# Altium schematic symbol library ToradexMainBoard-V0I1.SCHLIB: 303 symbols (part 2 of 14)
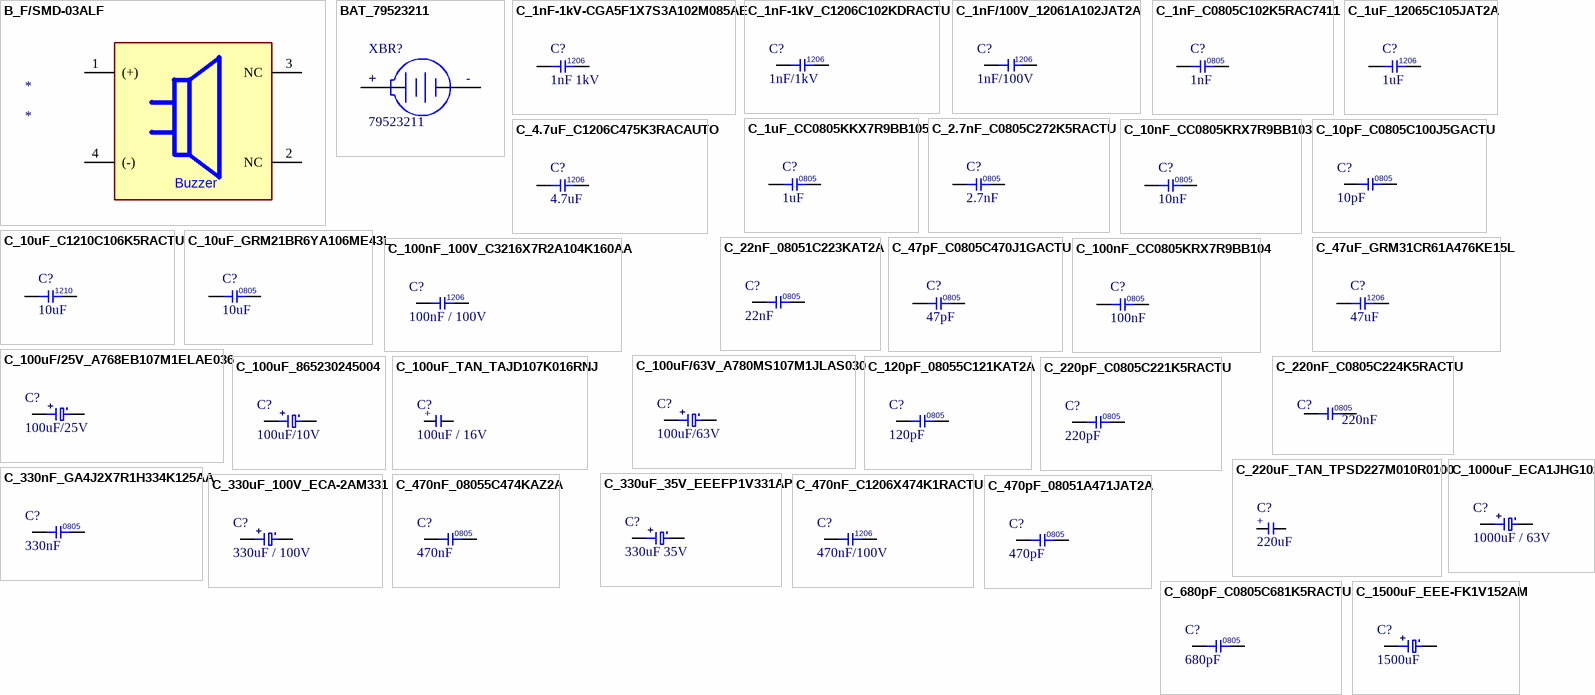
[diagram p16: symbols B_F/SMD-03ALF to C_1500uF_EEE-FK1V152AM]

## C_330nF_GA4J2X7R1H334K125AA
designator C?, comment 330nF
CGA Series 0805 330 nF 50 V ±10 % Tolerance X7R SMT Multilayer Ceramic Capacitor; Manufacturer: TDK; Manufacturer Part Number: CGA4J2X7R1H334K125AA; Voltage Rating: 50V; Tolerance: 10%; Supplier 1: Mouser; RoHS: Yes; Category: Ceramic Capacitors; Stock 1: 57325; Mount: Surface Mount; Case/Package: 0805; Case Code (Metric): 2012; Case Code (Imperial): 0805; Weight: 0.000194oz; Min Operating Temperature: -55°C; Max Operating Temperature: 125°C; Capacitance: 330nF; Packaging: Tape and Reel; Voltage Rating (DC): 50V; Dielectric: X7R; Termination: SMD/SMT; Series: CGA; Package Quantity: 2000; Resistor Type: Ceramic; Length: 2mm; Width: 0.049inch; Height: 1.25mm; Depth: 1.25mm; Thickness: 0.057inch; Ratings: AEC-Q200; RoHS Compliant: Yes; REACH SVHC: No SVHC; Lead Free: Lead Free; ComponentLink1URL: https://datasheet.ciiva.com/24218/cga4j2x7r1h334k125aa-265831-24218542.pdf?src-supplier=Mouser; ComponentLink1Description: https://datasheet.ciiva.com/24218/cga4j2x7r1h334k125aa-265831-24218542.pdf?src-supplier=Mouser; ComponentLink2URL: https://datasheet.ciiva.com/7975/1807242-7975406.pdf?src-supplier=Element14; ComponentLink2Description: https://datasheet.ciiva.com/7975/1807242-7975406.pdf?src-supplier=Element14; Supplier Part Number 1: 810-CGA4J2X7R1H334K
footprint C0805
pins: 1, 2

## C_330uF_35V_EEEFP1V331AP
designator C?, comment 330uF 35V
GLOVE, POLYAMIDE, L/FREE, PU, SIZE 6 - More Details; Manufacturer: Panasonic; Manufacturer Part Number: EEEFP1V331AP; Material: Aluminium; Ripple Current: 1.19A; ESR (Equivalent Series Resistance): 60mR; Tolerance: 20%; Polarity: Polar; Leakage Current: 115.5uA; Life (Hours): 2000Hour; Supplier 1: Farnell; RoHS: Yes; Category: Aluminum Electrolytic Capacitors; Stock 1: 7000; Pricing 1: 500=0,24100, 2500=0,22600 (EUR); Mount: Surface Mount,PCB; Case/Package: Radial; Number of Pins: 2; Dielectric Material: Aluminium; Contact Plating: Tin; Min Operating Temperature: -55°C; Max Operating Temperature: 105°C; Capacitance: 330uF; Termination: SMD/SMT; Voltage: 35V; Voltage Rating: 35V; Ripple Current (AC): 1.19A; Packaging: Tape and Reel; Voltage Rating (DC): 35V; Package Quantity: 500; Diameter: 10mm; Length: 10.5mm; Width: 10.3mm; Height: 10.2mm; Height - Seated (Max): 0.402inch; Lead Pitch: 4.6mm; Radiation Hardening: No; REACH SVHC: No SVHC; Lead Free: Lead Free; ComponentLink1URL: https://datasheet.ciiva.com/25613/0900766b80df09a1-25613928.pdf?src-supplier=RSComponents; ComponentLink1Description: https://datasheet.ciiva.com/25613/0900766b80df09a1-25613928.pdf?src-supplier=RSComponents; ComponentLink2URL: https://datasheet.ciiva.com/11777/0900766b80df09a1-11777338.pdf?src-supplier=RSComponents; ComponentLink2Description: https://datasheet.ciiva.com/11777/0900766b80df09a1-11777338.pdf?src-supplier=RSComponents; ComponentLink3URL: https://datasheet.ciiva.com/29313/444849-da-01-en-smd-elko-eeefp1v331ap-330uf-35v-105-29313972.pdf?src-supplier=Conrad; ComponentLink3Description: https://datasheet.ciiva.com/29313/444849-da-01-en-smd-elko-eeefp1v331ap-330uf-35v-105-29313972.pdf?src-supplier=Conrad; ComponentLink4URL: https://datasheet.ciiva.com/14600/70068195-14600453.pdf?src-supplier=Allied+Electronics; ComponentLink4Description: https://datasheet.ciiva.com/14600/70068195-14600453.pdf?src-supplier=Allied+Electronics; ComponentLink5URL: https://datasheet.ciiva.com/30151/aba0000ce114-30151389.pdf?src-supplier=Onlinecomponents.com; ComponentLink5Description: https://datasheet.ciiva.com/30151/aba0000ce114-30151389.pdf?src-supplier=Onlinecomponents.com; ComponentLink6URL: https://datasheet.ciiva.com/2985/aba0000ce114-2985550.pdf?src-supplier=Avnet; ComponentLink6Description: https://datasheet.ciiva.com/2985/aba0000ce114-2985550.pdf?src-supplier=Avnet; ComponentLink7URL: https://datasheet.ciiva.com/24028/aba0000ce114-40714-24028182.pdf?src-supplier=Mouser; ComponentLink7Description: https://datasheet.ciiva.com/24028/aba0000ce114-40714-24028182.pdf?src-supplier=Mouser; ComponentLink8URL: https://datasheet.ciiva.com/46386/370232-46386774.pdf?src-supplier=Element14; ComponentLink8Description: https://datasheet.ciiva.com/46386/370232-46386774.pdf?src-supplier=Element14; ComponentLink9URL: https://datasheet.ciiva.com/46385/370232-46385482.pdf?src-supplier=Element14; ComponentLink9Description: https://datasheet.ciiva.com/46385/370232-46385482.pdf?src-supplier=Element14; ComponentLink10URL: https://datasheet.ciiva.com/48523/fp-eng-tds-48523850.pdf?src-supplier=Distrelec; ComponentLink10Description: https://datasheet.ciiva.com/48523/fp-eng-tds-48523850.pdf?src-supplier=Distrelec; ComponentLink11URL: https://datasheet.ciiva.com/10327/aba0000ce114-10327227.pdf?src-supplier=Avnet; ComponentLink11Description: https://datasheet.ciiva.com/10327/aba0000ce114-10327227.pdf?src-supplier=Avnet; ComponentLink12URL: https://datasheet.ciiva.com/14603/70068195-14603563.pdf?src-supplier=Allied+Electronics; ComponentLink12Description: https://datasheet.ciiva.com/14603/70068195-14603563.pdf?src-supplier=Allied+Electronics; ComponentLink13URL: https://datasheet.ciiva.com/17533/aba0000ce114-17533116.pdf?src-supplier=Avnet+Europe; ComponentLink13Description: https://datasheet.ciiva.com/17533/aba0000ce114-17533116.pdf?src-supplier=Avnet+Europe; ComponentLink14URL: https://datasheet.ciiva.com/28692/370232-28692654.pdf?src-supplier=Element14; ComponentLink14Description: https://datasheet.ciiva.com/28692/370232-28692654.pdf?src-supplier=Element14; Supplier Part Number 1: 2408633
footprint C_EEEFP1V331AP
pins: 1, 2
text: +; -

## C_330uF_100V_ECA-2AM331
designator C?, comment 330uF / 100V
Cap Aluminum Lytic 330uF 100V 20% (12.5 X 25mm) Radial 5mm 700mA 2000h 85C Bulk; Manufacturer: Panasonic; Manufacturer Part Number: ECA-2AM331; Dielectric Material: Aluminium; Lead/Base Style: Straight; Polarity: Polar; Life (Hours): 2000Hour; Leakage Current: 330uA; Dissipation Factor: 0.1%; Lead Diameter: 0.6mm; Lead Length: 17mm; Supplier 1: Farnell; RoHS: Yes; Category: Aluminum Electrolytic Capacitors; Stock 1: 975; Pricing 1: 1=1,19000, 5=1,02000, 10=0,84400, 20=0,69300, 40=0,54200, 100=0,46600, 500=0,38900 (EUR); Mount: Through Hole,PCB; Case/Package: Radial; Number of Pins: 2; Min Operating Temperature: -40°C; Max Operating Temperature: 85°C; Termination: Radial; Capacitance: 330uF; Tolerance: 20%; Ripple Current: 700mA; Voltage Rating: 100V; Packaging: Bulk; Package Quantity: 200; Voltage Rating (DC): 100V; Voltage: 100V; Diameter: 12.5mm; Length: 25mm; Height: 25mm; Lead Pitch: 5mm; Height - Seated (Max): 1.063inch; Radiation Hardening: No; REACH SVHC: Yes; Lead Free: Lead Free; ComponentLink1URL: https://datasheet.ciiva.com/30175/49aba0000ce12-30175590.pdf?src-supplier=Onlinecomponents.com; ComponentLink1Description: https://datasheet.ciiva.com/30175/49aba0000ce12-30175590.pdf?src-supplier=Onlinecomponents.com; ComponentLink2URL: https://datasheet.ciiva.com/2984/aba0000ce12-2984407.pdf?src-supplier=Avnet; ComponentLink2Description: https://datasheet.ciiva.com/2984/aba0000ce12-2984407.pdf?src-supplier=Avnet; ComponentLink3URL: https://datasheet.ciiva.com/24228/aba0000ce12-465472-24228297.pdf?src-supplier=Mouser; ComponentLink3Description: https://datasheet.ciiva.com/24228/aba0000ce12-465472-24228297.pdf?src-supplier=Mouser; ComponentLink4URL: https://datasheet.ciiva.com/15198/getdatasheetpartid-238871-15198023.pdf?src-supplier=Verical; ComponentLink4Description: https://datasheet.ciiva.com/15198/getdatasheetpartid-238871-15198023.pdf?src-supplier=Verical; ComponentLink5URL: https://datasheet.ciiva.com/14608/70067785-14608362.pdf?src-supplier=Allied+Electronics; ComponentLink5Description: https://datasheet.ciiva.com/14608/70067785-14608362.pdf?src-supplier=Allied+Electronics; ComponentLink6URL: https://datasheet.ciiva.com/16395/aba0000ce12-16395339.pdf?src-supplier=Future+Electronics; ComponentLink6Description: https://datasheet.ciiva.com/16395/aba0000ce12-16395339.pdf?src-supplier=Future+Electronics; Supplier Part Number 1: 1907145
footprint C_ECA-2AM331
pins: 1, 2
text: +; -

## C_470nF_08055C474KAZ2A
designator C?, comment 470nF
CAP CER 0.47UF 50V X7R 0805; Manufacturer: Kyocera AVX; Manufacturer Part Number: 08055C474KAZ2A; Dielectric Material: Ceramic; Tolerance: 10%; Supplier 1: Farnell; RoHS: Yes; Category: Ceramic Capacitors; Stock 1: 87000; Pricing 1: 3000=0,05700, 15000=0,05590 (EUR); Mount: Surface Mount; Case/Package: 0805; Number of Pins: 2; Case Code (Metric): 2012; Case Code (Imperial): 0805; Contact Plating: Tin,Matte; Min Operating Temperature: -55°C; Max Operating Temperature: 125°C; Capacitance: 470nF; Packaging: Tape and Reel; Dielectric: X7R; Voltage Rating: 50V; Voltage Rating (DC): 50V; Termination: SMD/SMT; Package Quantity: 2000; Voltage: 50V; Features: Soft Termination; Length: 2.01mm; Width: 0.049inch; Height: 1.4mm; Depth: 1.25mm; Thickness: 0.037inch; Radiation Hardening: No; REACH SVHC: No SVHC; Lead Free: Lead Free; ComponentLink1URL: https://datasheet.ciiva.com/11786/0900766b80dc2409-11786677.pdf?src-supplier=RSComponents; ComponentLink1Description: https://datasheet.ciiva.com/11786/0900766b80dc2409-11786677.pdf?src-supplier=RSComponents; ComponentLink2URL: https://datasheet.ciiva.com/5410/flexiterm-5410875.pdf?src-supplier=Mouser; ComponentLink2Description: https://datasheet.ciiva.com/5410/flexiterm-5410875.pdf?src-supplier=Mouser; ComponentLink3URL: https://datasheet.ciiva.com/7812/319609-7812127.pdf?src-supplier=Element14; ComponentLink3Description: https://datasheet.ciiva.com/7812/319609-7812127.pdf?src-supplier=Element14; Supplier Part Number 1: 3297802
footprint C0805
pins: 1, 2

## C_470nF_C1206X474K1RACTU
designator C?, comment 470nF/100V
Cap Ceramic 0.47uF 100V X7R 10% Pad SMD 1206 Flexible Termination 125C Automotive Medical T/R; Manufacturer: KEMET; Manufacturer Part Number: C1206X474K1RACTU; Capacitance: 470nF; Supplier 1: Farnell; RoHS: Yes; Category: Ceramic Capacitors; Stock 1: 3723; Pricing 1: 5=1,20000, 50=0,77300, 250=0,67900, 500=0,58400 (EUR); Mount: Surface Mount; Case/Package: 1206; Dielectric Material: Ceramic; Case Code (Imperial): 1206; Case Code (Metric): 3216; Min Operating Temperature: -55°C; Max Operating Temperature: 125°C; Tolerance: 10%; Packaging: Tape and Reel; Dielectric: X7R; Voltage Rating (DC): 100V; Features: Soft Termination; Package Quantity: 2000; Series: FT-CAP; Voltage Rating: 100V; Termination: SMD/SMT; Construction: Flat; Length: 3.3mm; Width: 0.063inch; Height: 0.9mm; Depth: 1.6mm; Thickness: 0.069inch; Radiation Hardening: No; REACH SVHC: Unknown; RoHS Compliant: Yes; ComponentLink1URL: https://datasheet.ciiva.com/7730/1598273-7730041.pdf?src-supplier=Element14; ComponentLink1Description: https://datasheet.ciiva.com/7730/1598273-7730041.pdf?src-supplier=Element14; ComponentLink2URL: https://datasheet.ciiva.com/7730/kem-c1002-x7r-smd-7730185.pdf?src-supplier=Element14; ComponentLink2Description: https://datasheet.ciiva.com/7730/kem-c1002-x7r-smd-7730185.pdf?src-supplier=Element14; Supplier Part Number 1: 2112906
footprint C1206
pins: 1, 2

## C_470pF_08051A471JAT2A
designator C?, comment 470pF
AVX - 08051A471JAT2A - SMD Multilayer Ceramic Capacitor, 470 pF, 100 V, 0805 [2012 Metric], ± 5%, C0G / NP0, AVX 0805 MLCC; Manufacturer: Kyocera AVX; Voltage Rating: 100V; Dissipation Factor: 2.5%; Temperature Coefficient: 30ppm/°C; Insulation Resistance: 100GR; Supplier 1: Farnell; Manufacturer Part Number: 08051A471JAT2A; RoHS: Yes; Category: Ceramic Capacitors; Stock 1: 24000; Pricing 1: 4000=0,03540, 20000=0,02240 (EUR); Mount: Surface Mount,PCB; Case/Package: 0805; Number of Pins: 2; Case Code (Imperial): 0805; Case Code (Metric): 2012; Contact Plating: Tin,Matte; Min Operating Temperature: -55°C; Max Operating Temperature: 125°C; Capacitance: 470pF; Tolerance: 5%; Voltage Rating (DC): 100V; Packaging: Tape and Reel; Dielectric: C0G; Package Quantity: 1; Termination: SMD/SMT; Voltage: 100V; Length: 2.01mm; Width: 1.25mm; Height: 0.94mm; Thickness: 0.037inch; Depth: 1.25mm; Radiation Hardening: No; REACH SVHC: No SVHC; Lead Free: Lead Free; ComponentLink1URL: https://datasheet.ciiva.com/11787/0900766b802d4697-11787179.pdf?src-supplier=RSComponents; ComponentLink1Description: https://datasheet.ciiva.com/11787/0900766b802d4697-11787179.pdf?src-supplier=RSComponents; ComponentLink2URL: https://datasheet.ciiva.com/19476/2010384-19476174.pdf?src-supplier=Jameco; ComponentLink2Description: https://datasheet.ciiva.com/19476/2010384-19476174.pdf?src-supplier=Jameco; ComponentLink3URL: https://datasheet.ciiva.com/11536/ccog-11536997.pdf?src-supplier=Avnet; ComponentLink3Description: https://datasheet.ciiva.com/11536/ccog-11536997.pdf?src-supplier=Avnet; ComponentLink4URL: https://datasheet.ciiva.com/14590/70001042-14590309.pdf?src-supplier=Allied+Electronics; ComponentLink4Description: https://datasheet.ciiva.com/14590/70001042-14590309.pdf?src-supplier=Allied+Electronics; ComponentLink5URL: https://datasheet.ciiva.com/14594/70001042-14594869.pdf?src-supplier=Allied+Electronics; ComponentLink5Description: https://datasheet.ciiva.com/14594/70001042-14594869.pdf?src-supplier=Allied+Electronics; ComponentLink6URL: https://datasheet.ciiva.com/2987/ccog-2987926.pdf?src-supplier=Avnet; ComponentLink6Description: https://datasheet.ciiva.com/2987/ccog-2987926.pdf?src-supplier=Avnet; ComponentLink7URL: https://datasheet.ciiva.com/5424/ccog-243403-5424886.pdf?src-supplier=Mouser; ComponentLink7Description: https://datasheet.ciiva.com/5424/ccog-243403-5424886.pdf?src-supplier=Mouser; ComponentLink8URL: https://datasheet.ciiva.com/28546/759117-28546679.pdf?src-supplier=Element14; ComponentLink8Description: https://datasheet.ciiva.com/28546/759117-28546679.pdf?src-supplier=Element14; ComponentLink9URL: https://datasheet.ciiva.com/151/ccog-151179.pdf?src-supplier=Digi-Key; ComponentLink9Description: https://datasheet.ciiva.com/151/ccog-151179.pdf?src-supplier=Digi-Key; ComponentLink10URL: https://datasheet.ciiva.com/151/ccog-151180.pdf?src-supplier=Digi-Key; ComponentLink10Description: https://datasheet.ciiva.com/151/ccog-151180.pdf?src-supplier=Digi-Key; ComponentLink11URL: https://datasheet.ciiva.com/6150/26712-6150332.pdf?src-supplier=Farnell; ComponentLink11Description: https://datasheet.ciiva.com/6150/26712-6150332.pdf?src-supplier=Farnell; ComponentLink12URL: https://datasheet.ciiva.com/151/ccog-151181.pdf?src-supplier=Digi-Key; ComponentLink12Description: https://datasheet.ciiva.com/151/ccog-151181.pdf?src-supplier=Digi-Key; ComponentLink13URL: https://datasheet.ciiva.com/7811/759117-7811903.pdf?src-supplier=Element14; ComponentLink13Description: https://datasheet.ciiva.com/7811/759117-7811903.pdf?src-supplier=Element14; Supplier Part Number 1: 2280932
footprint C0805
pins: 1, 2

## C_680pF_C0805C681K5RACTU
designator C?, comment 680pF
Cap Ceramic 680pF 50V X7R 10% SMD 0805 125C T/R; Manufacturer: KEMET; Manufacturer Part Number: C0805C681K5RACTU; Dissipation Factor: 2.5%; Supplier 1: Farnell; RoHS: Yes; Category: Ceramic Capacitors; Stock 1: 3684; Pricing 1: 10=0,16600, 100=0,10900, 500=0,07040, 1000=0,06490, 2000=0,05190 (EUR); Mount: Surface Mount,PCB; Case/Package: 0805; Case Code (Imperial): 0805; Case Code (Metric): 2012; Dielectric Material: Ceramic; Min Operating Temperature: -55°C; Max Operating Temperature: 125°C; Capacitance: 680pF; Tolerance: 10%; Packaging: Tape and Reel; Package Quantity: 1; Dielectric: X7R; Voltage Rating (DC): 50V; Termination: SMD/SMT; Voltage Rating: 50V; Voltage: 50V; Length: 2mm; Width: 1.2mm; Height: 0.78mm; Depth: 1.25mm; Thickness: 0.035inch; Lead Pitch: 0.75mm; Radiation Hardening: No; REACH SVHC: No SVHC; ComponentLink1URL: https://datasheet.ciiva.com/5424/kem-c1002-x7r-smd-357932-5424613.pdf?src-supplier=Mouser; ComponentLink1Description: https://datasheet.ciiva.com/5424/kem-c1002-x7r-smd-357932-5424613.pdf?src-supplier=Mouser; ComponentLink2URL: https://datasheet.ciiva.com/14598/70095383-14598986.pdf?src-supplier=Allied+Electronics; ComponentLink2Description: https://datasheet.ciiva.com/14598/70095383-14598986.pdf?src-supplier=Allied+Electronics; Supplier Part Number 1: 2581098
footprint C0805
pins: 1, 2

## C_1000uF_ECA1JHG102
designator C?, comment 1000uF / 63V
Capacitor;  Aluminum Electrolytic;  Cap 1000uF;  Vol-Rtg 63V;  Radial;  nHg; Manufacturer: Panasonic; Manufacturer Part Number: ECA1JHG102; Dielectric Material: Aluminium; Capacitance: 1mF; Tolerance: 20%; Ripple Current: 930mA; Life (Hours): 2000Hour; Lead/Base Style: Straight; Leakage Current: 3uA; Dissipation Factor: 0.1%; Lead Diameter: 0.8mm; Supplier 1: Farnell; RoHS: Yes; Category: Aluminum Electrolytic Capacitors; Stock 1: 3419; Pricing 1: 1=1,80000, 3=1,62000, 5=1,45000, 10=1,27000, 20=1,02000, 50=0,77000, 250=0,75500 (EUR); Mount: Through Hole,PCB; Case/Package: Radial; Contact Plating: Tin; Min Operating Temperature: -55°C; Max Operating Temperature: 105°C; Termination: Radial; Packaging: Bulk; Voltage Rating (DC): 63V; Voltage Rating: 63V; Package Quantity: 100; Voltage: 63V; Diameter: 16mm; Length: 25mm; Height: 25mm; Lead Pitch: 7.5mm; Height - Seated (Max): 1.063inch; Radiation Hardening: No; Lead Free: Lead Free; REACH SVHC: No SVHC; ComponentLink1URL: https://datasheet.ciiva.com/11778/0900766b800301b8-11778754.pdf?src-supplier=RSComponents; ComponentLink1Description: https://datasheet.ciiva.com/11778/0900766b800301b8-11778754.pdf?src-supplier=RSComponents; ComponentLink2URL: https://datasheet.ciiva.com/26841/getdatasheetpartid-407721-26841077.pdf?src-supplier=Verical; ComponentLink2Description: https://datasheet.ciiva.com/26841/getdatasheetpartid-407721-26841077.pdf?src-supplier=Verical; ComponentLink3URL: https://datasheet.ciiva.com/27055/1980899-27055562.pdf?src-supplier=Jameco; ComponentLink3Description: https://datasheet.ciiva.com/27055/1980899-27055562.pdf?src-supplier=Jameco; ComponentLink4URL: https://datasheet.ciiva.com/30175/8aba0000ce26-30175355.pdf?src-supplier=Onlinecomponents.com; ComponentLink4Description: https://datasheet.ciiva.com/30175/8aba0000ce26-30175355.pdf?src-supplier=Onlinecomponents.com; ComponentLink5URL: https://datasheet.ciiva.com/43485/1790596-43485277.pdf?src-supplier=Farnell; ComponentLink5Description: https://datasheet.ciiva.com/43485/1790596-43485277.pdf?src-supplier=Farnell; ComponentLink6URL: https://datasheet.ciiva.com/46396/1903322-46396509.pdf?src-supplier=Element14; ComponentLink6Description: https://datasheet.ciiva.com/46396/1903322-46396509.pdf?src-supplier=Element14; ComponentLink7URL: https://datasheet.ciiva.com/48521/radial-nhg-eng-tds-48521982.pdf?src-supplier=Distrelec; ComponentLink7Description: https://datasheet.ciiva.com/48521/radial-nhg-eng-tds-48521982.pdf?src-supplier=Distrelec; ComponentLink8URL: https://datasheet.ciiva.com/14590/70067776-14590015.pdf?src-supplier=Allied+Electronics; ComponentLink8Description: https://datasheet.ciiva.com/14590/70067776-14590015.pdf?src-supplier=Allied+Electronics; ComponentLink9URL: https://datasheet.ciiva.com/17356/aba0000ce26-17356309.pdf?src-supplier=Avnet+Europe; ComponentLink9Description: https://datasheet.ciiva.com/17356/aba0000ce26-17356309.pdf?src-supplier=Avnet+Europe; ComponentLink10URL: https://datasheet.ciiva.com/16393/aba0000ce26-16393351.pdf?src-supplier=Future+Electronics; ComponentLink10Description: https://datasheet.ciiva.com/16393/aba0000ce26-16393351.pdf?src-supplier=Future+Electronics; Supplier Part Number 1: 9693076
footprint C_ECA1JHG102
pins: 1, 2
text: +; -

## C_1500uF_EEE-FK1V152AM
designator C?, comment 1500uF
CAP, ALU ELEC, 1500UF, 35V, SMD; Manufacturer: Panasonic; Manufacturer Part Number: EEE-FK1V152AM; Capacitance: 1.5mF; Tolerance: 20%; Ripple Current: 1.8A; Impedance: 35mR; Polarity: Polar; Life (Hours): 5000Hour; Dissipation Factor: 0.12%; Supplier 1: Farnell; RoHS: Yes; Category: Aluminum Electrolytic Capacitors; Stock 1: 869; Pricing 1: 1=2,26000, 5=1,80000, 10=1,33000, 25=1,24000, 50=1,15000, 125=1,04000, 625=0,92600 (EUR); Mount: Surface Mount,PCB; Case/Package: Radial; Contact Plating: Tin; Min Operating Temperature: -55°C; Max Operating Temperature: 105°C; Voltage Rating: 35V; Packaging: Tape and Reel; Package Quantity: 125; Voltage Rating (DC): 35V; ESR (Equivalent Series Resistance): 35mR; Ripple Current (AC): 1.8A; Termination: SMD/SMT; Voltage: 35V; Series: FK; Construction: Cylindrical; Diameter: 16mm; Length: 16.5mm; Height: 16.5mm; Height - Seated (Max): 0.669inch; Radiation Hardening: No; REACH SVHC: No SVHC; Lead Free: Lead Free; RoHS Compliant: Yes; ComponentLink1URL: https://datasheet.ciiva.com/11783/0900766b80e4e801-11783472.pdf?src-supplier=RSComponents; ComponentLink1Description: https://datasheet.ciiva.com/11783/0900766b80e4e801-11783472.pdf?src-supplier=RSComponents; ComponentLink2URL: https://datasheet.ciiva.com/43470/1726499-43470727.pdf?src-supplier=Farnell; ComponentLink2Description: https://datasheet.ciiva.com/43470/1726499-43470727.pdf?src-supplier=Farnell; ComponentLink3URL: https://datasheet.ciiva.com/46372/1726499-46372503.pdf?src-supplier=Element14; ComponentLink3Description: https://datasheet.ciiva.com/46372/1726499-46372503.pdf?src-supplier=Element14; ComponentLink4URL: https://datasheet.ciiva.com/11678/aba0000ce88-11678076.pdf?src-supplier=Avnet; ComponentLink4Description: https://datasheet.ciiva.com/11678/aba0000ce88-11678076.pdf?src-supplier=Avnet; ComponentLink5URL: https://datasheet.ciiva.com/17532/aba0000ce88-17532204.pdf?src-supplier=Avnet+Europe; ComponentLink5Description: https://datasheet.ciiva.com/17532/aba0000ce88-17532204.pdf?src-supplier=Avnet+Europe; ComponentLink6URL: https://datasheet.ciiva.com/46379/1726499-46379151.pdf?src-supplier=Element14; ComponentLink6Description: https://datasheet.ciiva.com/46379/1726499-46379151.pdf?src-supplier=Element14; ComponentLink7URL: https://datasheet.ciiva.com/31417/1726499-31417902.pdf?src-supplier=Farnell; ComponentLink7Description: https://datasheet.ciiva.com/31417/1726499-31417902.pdf?src-supplier=Farnell; ComponentLink8URL: https://datasheet.ciiva.com/48524/fk-large-eng-tds-48524430.pdf?src-supplier=Distrelec; ComponentLink8Description: https://datasheet.ciiva.com/48524/fk-large-eng-tds-48524430.pdf?src-supplier=Distrelec; ComponentLink9URL: https://datasheet.ciiva.com/14599/70256466-14599879.pdf?src-supplier=Allied+Electronics; ComponentLink9Description: https://datasheet.ciiva.com/14599/70256466-14599879.pdf?src-supplier=Allied+Electronics; Supplier Part Number 1: 2326215
footprint C_EEE-FK1V152AM
pins: 1, 2
text: +; -

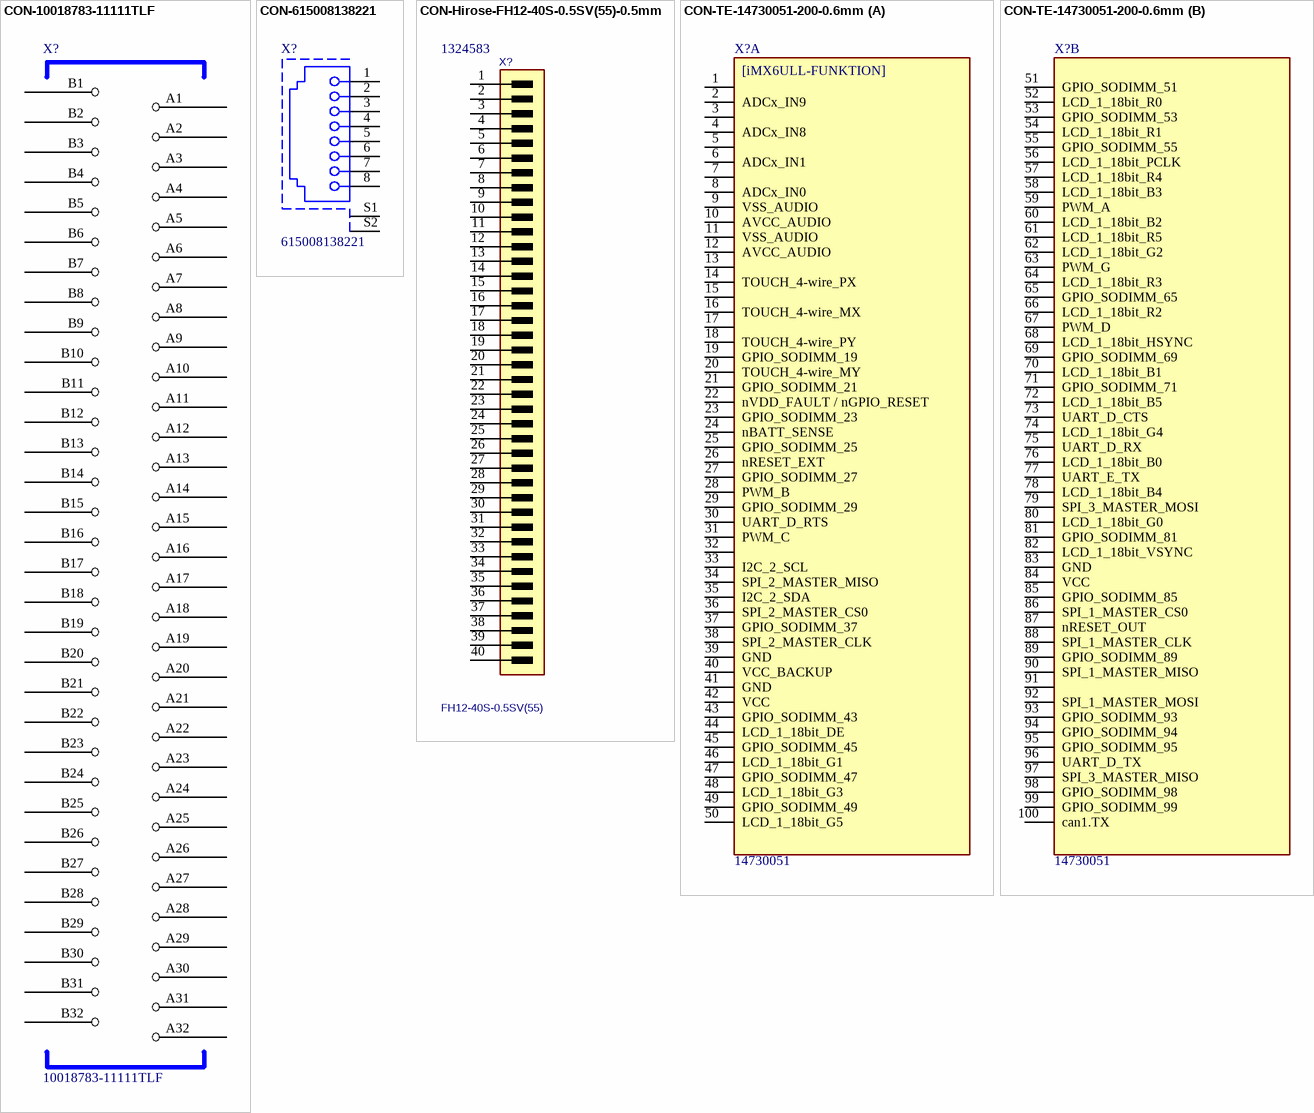
[diagram p1: symbols CON-10018783-11111TLF to CON-TE-14730051-200-0.6mm]

## CON-10018783-11111TLF
designator X?, comment 10018783-11111TLF
AMPHENOL ICC (FCI) - 10018783-11111TLF - CONNECTOR, PCI, 2X32WAY; Manufacturer: Amphenol FCI; Number of Contacts: 64; Gender: Female; Current Rating: 1.1A; Voltage Rating (AC): 300V; Contact Resistance: 30mR; Mating Cycles: 50; Insulation Resistance: 1GR; Connector Type: Cantilever; Pitch: 2mm; Board Thickness: 2.36mm; Pin Length: 3.1mm; Card Thickness: 0.062inch; PCBChecked: initials after Checked; Supplier 1: Digi-Key; Manufacturer Part Number: 10018783-11111TLF; RoHS: Yes; Category: Card Edge Connectors; Mount: Through Hole,PCB; Contact Plating: Gold,Tin,Matte; Contact Material: Copper Alloy; Color: Black; Material: Nylon,Glass; Housing Color: Black; Insulation Material: Nylon; Housing Material: Nylon; Min Operating Temperature: -55°C; Max Operating Temperature: 85°C; Number of Rows: 2; Termination: Solder; Package Quantity: 60; Packaging: Tray; Number of Positions: 64; Max Voltage Rating (AC): 300V; Orientation: Straight; Length: 39mm; Height: 11.25mm; Lead Pitch: 1mm; Width: 11.25mm; Depth: 8.8mm; Row Spacing: 2mm; Tail Length: 2.36mm; REACH SVHC: No SVHC; Lead Free: Lead Free; Flammability Rating: UL94 V-0; ComponentLink1URL: https://datasheet.ciiva.com/11732/0900766b807b50f6-11732962.pdf?src-supplier=RSComponents; ComponentLink1Description: https://datasheet.ciiva.com/11732/0900766b807b50f6-11732962.pdf?src-supplier=RSComponents; ComponentLink2URL: https://datasheet.ciiva.com/14636/0900766b807b50f6-14636453.pdf?src-supplier=Allied+Electronics; ComponentLink2Description: https://datasheet.ciiva.com/14636/0900766b807b50f6-14636453.pdf?src-supplier=Allied+Electronics; ComponentLink3URL: https://datasheet.ciiva.com/417/10018783-417603.pdf?src-supplier=Digi-Key; ComponentLink3Description: https://datasheet.ciiva.com/417/10018783-417603.pdf?src-supplier=Digi-Key; ComponentLink4URL: https://datasheet.ciiva.com/5671/gs-12-233-532843-5671048.pdf?src-supplier=Mouser; ComponentLink4Description: https://datasheet.ciiva.com/5671/gs-12-233-532843-5671048.pdf?src-supplier=Mouser; ComponentLink5URL: https://datasheet.ciiva.com/16666/10018783-16666568.pdf?src-supplier=Avnet+Europe; ComponentLink5Description: https://datasheet.ciiva.com/16666/10018783-16666568.pdf?src-supplier=Avnet+Europe; ComponentLink6URL: https://datasheet.ciiva.com/3099/10018783-3099434.pdf?src-supplier=Avnet; ComponentLink6Description: https://datasheet.ciiva.com/3099/10018783-3099434.pdf?src-supplier=Avnet; Supplier Part Number 1: 609-1996-ND; Stock 1: 3867; IPC7352C: initials after Checked; SCHChecked: initials after Checked
footprint 10018783-11111TLF _kor (CONN PCI EXP FEMALE 64POS 0.039)
pins: A1, A2, A3, A4, A5, A6, A7, A8, A9, A10, A11, A12, A13, A14, A15, A16, A17, A18, A19, A20, A21, A22, A23, A24, A25, A26, A27, A28, A29, A30, A31, A32, B1, B2, B3, B4, B5, B6, B7, B8, B9, B10, B11, B12, B13, B14, B15, B16, B17, B18, B19, B20, B21, B22, B23, B24, B25, B26, B27, B28, B29, B30, B31, B32

## CON-615008138221
designator X?, comment 615008138221
WURTH ELEKTRONIK - 615008138221 - JACK, RJ45, VERT, 8P8C, SHIELDED; Manufacturer: Wurth Electronics; Number of Ports: 1; Direction: User Selectable; Connector Type: Jack,RJ45,Socket; Number of Contacts: 8; Gender: Female; Current Rating: 1.5A; Mating Cycles: 500; Voltage Rating: 125V; Supplier 1: Digi-Key; Manufacturer Part Number: 615008138221; RoHS: Yes; Category: Connectors; Mount: Through Hole; Contact Material: Copper Alloy,Copper; Housing Material: PBT; Contact Plating: Gold; Color: Black; Min Operating Temperature: -40°C; Max Operating Temperature: 85°C; Termination: Through Hole; Package Quantity: 80; Number of Rows: 1; Shielding: Shielded; Packaging: Tray; Number of Positions: 8; Orientation: Vertical; Length: 16.65mm; Height: 16.65mm; Depth: 16.4mm; Width: 15.9mm; REACH SVHC: Unknown; ComponentLink1URL: https://datasheet.ciiva.com/685/615008138221-685840.pdf?src-supplier=Digi-Key; ComponentLink1Description: https://datasheet.ciiva.com/685/615008138221-685840.pdf?src-supplier=Digi-Key; ComponentLink2URL: https://datasheet.ciiva.com/11726/0900766b80f88675-11726117.pdf?src-supplier=RSComponents; ComponentLink2Description: https://datasheet.ciiva.com/11726/0900766b80f88675-11726117.pdf?src-supplier=RSComponents; ComponentLink3URL: https://datasheet.ciiva.com/4561/615008138221-83706-4561590.pdf?src-supplier=Mouser; ComponentLink3Description: https://datasheet.ciiva.com/4561/615008138221-83706-4561590.pdf?src-supplier=Mouser; ComponentLink4URL: https://datasheet.ciiva.com/1108/1666696-1108142.pdf?src-supplier=Element14; ComponentLink4Description: https://datasheet.ciiva.com/1108/1666696-1108142.pdf?src-supplier=Element14; ComponentLink5URL: https://datasheet.ciiva.com/48689/001088217-da-01-en-wr-com-modular-jack-615008138221-48689543.pdf?src-supplier=Conrad; ComponentLink5Description: https://datasheet.ciiva.com/48689/001088217-da-01-en-wr-com-modular-jack-615008138221-48689543.pdf?src-supplier=Conrad; Supplier Part Number 1: 732-2743-ND; Stock 1: 4282
footprint RJ45-V-615008138221 (RJ45 Vertical  Shielded)
pins: 1, 2, 3, 4, 5, 6, 7, 8, S1, S2

## CON-Hirose-FH12-40S-0.5SV(55)-0.5mm
designator X?, comment Supplier Part Number 1: 1324583  (hidden comment: FH12-40S-0.5SV(55))
CONN FFC VERT 40POS 0.50MM SMD; Manufacturer Name: Hirose; No. of ways: 24; Pitch: 0.5mm; Actuator Material: Polyphenylene; Number of Contacts: 40; Current Rating: 500mA; Voltage Rating: 50V; Wire/Cable Type: Straight; Gender: Female; Contact Resistance: 50mR; Max Current Rating: 400mA; Insulation Resistance: 500MR; Supplier 1: Farnell; Manufacturer: Hirose; Manufacturer Part Number: FH12-40S-0.5SV(55); RoHS: Yes; Category: FFC / FPC; Pricing 1: 1=2,32000, 10=2,21000, 50=2,11000, 100=2,00000, 250=1,89000, 500=1,68000 (EUR); Mount: Surface Mount; Housing Material: Polyamide; Contact Material: Bronze; Contact Plating: Gold; Housing Color: Beige; Material: Nylon; Min Operating Temperature: -40°C; Max Operating Temperature: 85°C; Termination: Solder; Number of Positions: 40; Package Quantity: 1000; Packaging: Tape and Reel; Orientation: Straight; Number of Rows: 1; Max Voltage Rating (AC): 50V; Length: 23.4mm; Width: 3.8mm; Flammability Rating: UL94 V-0; Lead Free: Lead Free; REACH SVHC: No SVHC; ComponentLink1URL: https://datasheet.ciiva.com/17080/0900766b80d985fc-17080802.pdf?src-supplier=Allied+Electronics; ComponentLink1Description: https://datasheet.ciiva.com/17080/0900766b80d985fc-17080802.pdf?src-supplier=Allied+Electronics; ComponentLink2URL: https://datasheet.ciiva.com/11745/0900766b80d985fc-11745635.pdf?src-supplier=RSComponents; ComponentLink2Description: https://datasheet.ciiva.com/11745/0900766b80d985fc-11745635.pdf?src-supplier=RSComponents; ComponentLink3URL: https://datasheet.ciiva.com/15176/getdatasheetpartid-447850-15176861.pdf?src-supplier=Verical; ComponentLink3Description: https://datasheet.ciiva.com/15176/getdatasheetpartid-447850-15176861.pdf?src-supplier=Verical; ComponentLink4URL: https://datasheet.ciiva.com/7661/58816-7661390.pdf?src-supplier=Element14; ComponentLink4Description: https://datasheet.ciiva.com/7661/58816-7661390.pdf?src-supplier=Element14; Manufacturer Part No.: FH12-40S-0.5SV(55)
footprint T_Hirose_FH12-40S-0.5SV(55) (FFC Connector 0.5mm pitch Vertical)
pins: 1 VSS (power), 2 VSS (power), 3 VCC (power), 4 VCC (power), 5 PWCTRL, 6 LEDCTRL, 7 RESET#, 8 B5, 9 B4, 10 B3, 11 B2, 12 B1, 13 B0, 14 VSS, 15 G5, 16 G4, 17 G3, 18 G2, 19 G1, 20 G0, 21 VSS, 22 R5, 23 R4, 24 R3, 25 R2, 26 R1, 27 R0, 28 DCLK, 29 VSS, 30 HSYNC, 31 VSYNC, 32 ENB, 33 NC, 34 SHUT, 35 VSS, 36 VDD, 37 YU, 38 XR, 39 YD, 40 XL

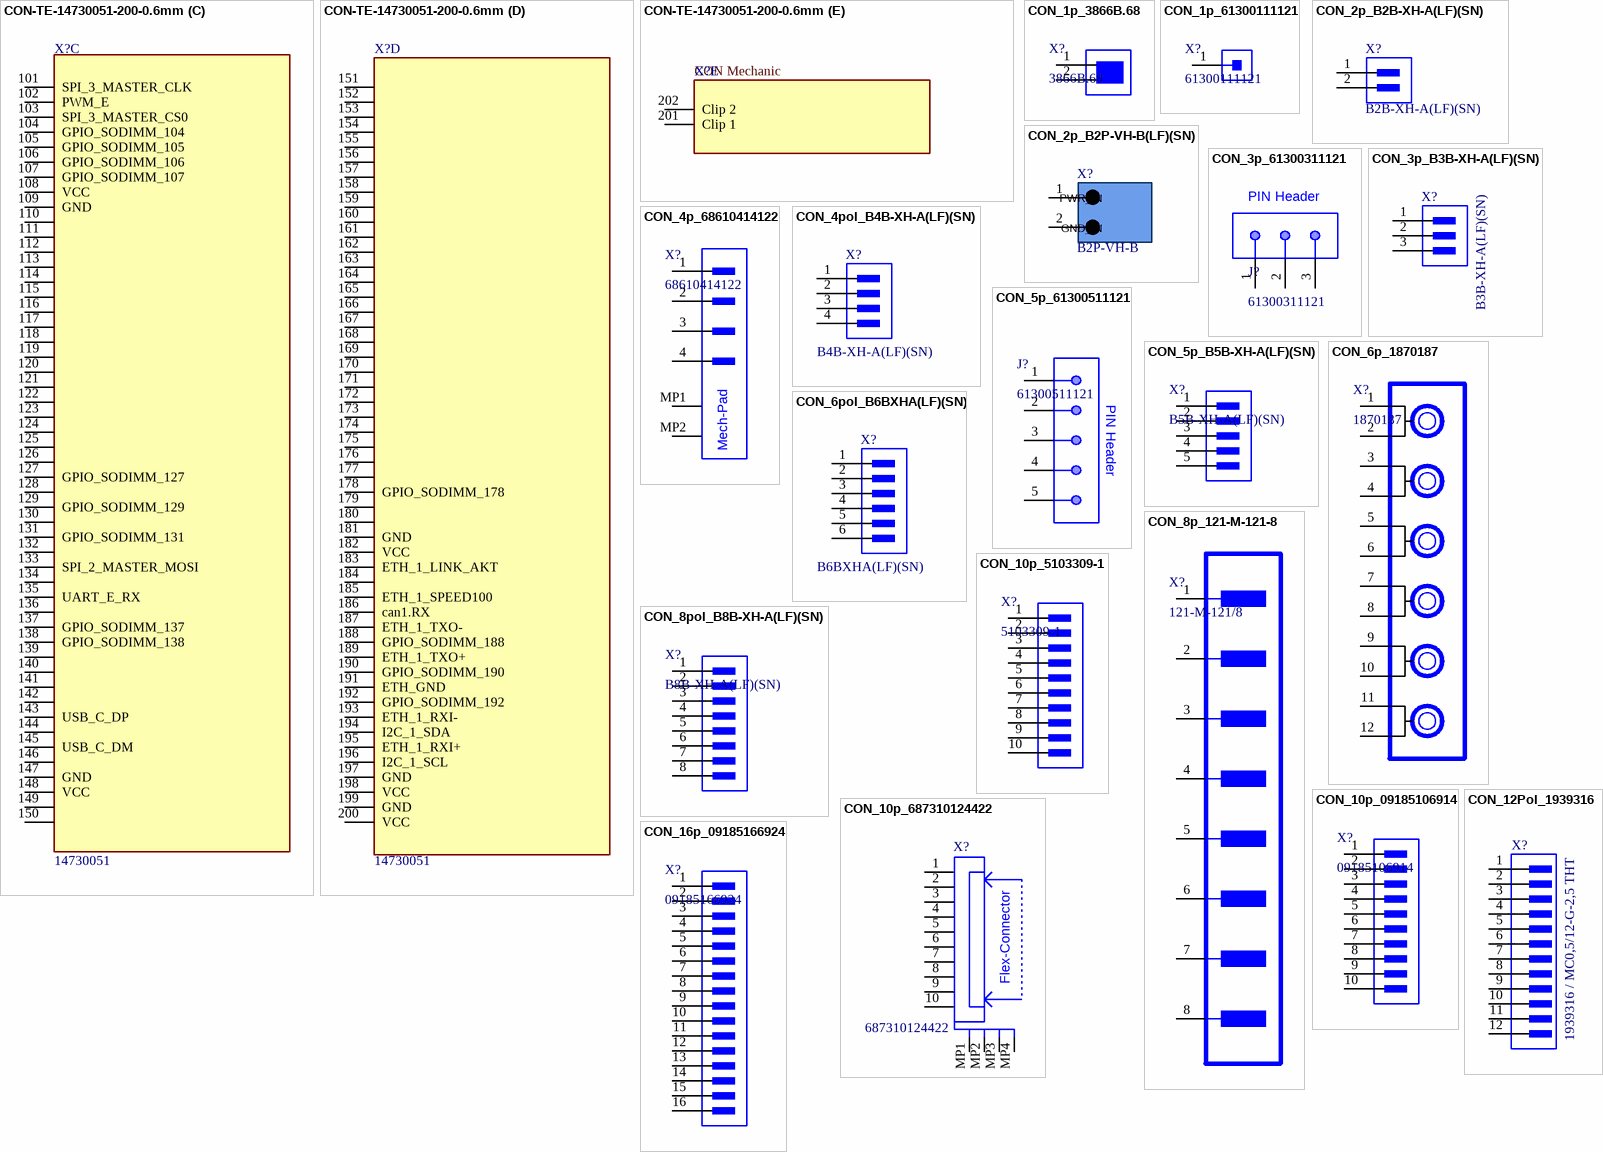
[diagram p2: symbols CON-TE-14730051-200-0.6mm to CON_16p_09185166924]

## CON-TE-14730051-200-0.6mm
designator X?, comment 14730051
Conn SO DIMM Socket SKT 200 POS 0.6mm Solder RA SMD Tray; Manufacturer: TE Connectivity; Number of Contacts: 200; Memory Type: DDR SDRAM; Voltage Rating: 2.5V; PCB Mount Retention: With; Gender: Female; Insulation Resistance: 250MR; Contact Current Rating: 500mA; Circuit Application: Power; Connector System: Cable-to-Board; Sealable: No (Without); Pitch: 0.024inch; Row Spacing: 0.244inch; Stack Height: 5.2mm; PCBChecked: initials after Checked; Supplier 1: Newark; Manufacturer Part Number: 14730051; RoHS: Yes; Category: Memory Connectors; Mount: Surface Mount; Number of Pins: 200; Contact Material: Copper Alloy; Contact Plating: Gold; Housing Material: Thermoplastic; Insulation Material: Thermoplastic; Housing Color: Black; Min Operating Temperature: -67°C; Max Operating Temperature: 185°C; Number of Rows: 2; Orientation: Right Angle; Termination: Solder; Packaging: Tray; Package Quantity: 20; Number of Positions: 200; Connector Type: Socket; Length: 71.5mm; Height: 5.2mm; Depth: 26mm; Radiation Hardening: No; ELV: Compliant; Flammability Rating: UL94 V-0; Lead Free: Lead Free; REACH SVHC: No SVHC; ComponentLink1URL: https://datasheet.ciiva.com/19460/898818-19460721.pdf?src-supplier=Jameco; ComponentLink1Description: https://datasheet.ciiva.com/19460/898818-19460721.pdf?src-supplier=Jameco; ComponentLink2URL: https://datasheet.ciiva.com/15171/getdatasheetpartid-93506-15171477.pdf?src-supplier=Verical; ComponentLink2Description: https://datasheet.ciiva.com/15171/getdatasheetpartid-93506-15171477.pdf?src-supplier=Verical; ComponentLink3URL: https://datasheet.ciiva.com/16314/eng-cd-1473005-j2-16314265.pdf?src-supplier=Future+Electronics; ComponentLink3Description: https://datasheet.ciiva.com/16314/eng-cd-1473005-j2-16314265.pdf?src-supplier=Future+Electronics; ComponentLink4URL: https://datasheet.ciiva.com/1105/582309-1105220.pdf?src-supplier=Element14; ComponentLink4Description: https://datasheet.ciiva.com/1105/582309-1105220.pdf?src-supplier=Element14; ComponentLink5URL: https://datasheet.ciiva.com/14156/04821302-14156310.pdf?src-supplier=Distrelec; ComponentLink5Description: https://datasheet.ciiva.com/14156/04821302-14156310.pdf?src-supplier=Distrelec; ComponentLink6URL: https://datasheet.ciiva.com/682/eng-cd-1473005-j2-682632.pdf?src-supplier=Digi-Key; ComponentLink6Description: https://datasheet.ciiva.com/682/eng-cd-1473005-j2-682632.pdf?src-supplier=Digi-Key; ComponentLink7URL: https://datasheet.ciiva.com/3136/eng-cd-1473005-j-3136059.pdf?src-supplier=Avnet; ComponentLink7Description: https://datasheet.ciiva.com/3136/eng-cd-1473005-j-3136059.pdf?src-supplier=Avnet; ComponentLink8URL: https://datasheet.ciiva.com/16469/eng-cd-1473005-j-16469341.pdf?src-supplier=Avnet+Asia; ComponentLink8Description: https://datasheet.ciiva.com/16469/eng-cd-1473005-j-16469341.pdf?src-supplier=Avnet+Asia; IPC7352C: initials after Checked; SCHChecked: initials after Checked
footprint T_TE_14730051 (SODIMM Connector)
part A pins: 1, 2 ADCx_IN9, 3, 4 ADCx_IN8, 5, 6 ADCx_IN1, 7, 8 ADCx_IN0, 9 VSS_AUDIO, 10 AVCC_AUDIO, 11 VSS_AUDIO, 12 AVCC_AUDIO, 13, 14 TOUCH_4-wire_PX, 15, 16 TOUCH_4-wire_MX, 17, 18 TOUCH_4-wire_PY, 19 GPIO_SODIMM_19, 20 TOUCH_4-wire_MY, 21 GPIO_SODIMM_21, 22 nVDD_FAULT / nGPIO_RESET, 23 GPIO_SODIMM_23, 24 nBATT_SENSE, 25 GPIO_SODIMM_25, 26 nRESET_EXT, 27 GPIO_SODIMM_27, 28 PWM_B, 29 GPIO_SODIMM_29, 30 UART_D_RTS, 31 PWM_C, 32, 33 I2C_2_SCL, 34 SPI_2_MASTER_MISO, 35 I2C_2_SDA, 36 SPI_2_MASTER_CS0, 37 GPIO_SODIMM_37, 38 SPI_2_MASTER_CLK, 39 GND, 40 VCC_BACKUP, 41 GND, 42 VCC, 43 GPIO_SODIMM_43, 44 LCD_1_18bit_DE, 45 GPIO_SODIMM_45, 46 LCD_1_18bit_G1, 47 GPIO_SODIMM_47, 48 LCD_1_18bit_G3, 49 GPIO_SODIMM_49, 50 LCD_1_18bit_G5
part B pins: 51 GPIO_SODIMM_51, 52 LCD_1_18bit_R0, 53 GPIO_SODIMM_53, 54 LCD_1_18bit_R1, 55 GPIO_SODIMM_55, 56 LCD_1_18bit_PCLK, 57 LCD_1_18bit_R4, 58 LCD_1_18bit_B3, 59 PWM_A, 60 LCD_1_18bit_B2, 61 LCD_1_18bit_R5, 62 LCD_1_18bit_G2, 63 PWM_G, 64 LCD_1_18bit_R3, 65 GPIO_SODIMM_65, 66 LCD_1_18bit_R2, 67 PWM_D, 68 LCD_1_18bit_HSYNC, 69 GPIO_SODIMM_69, 70 LCD_1_18bit_B1, 71 GPIO_SODIMM_71, 72 LCD_1_18bit_B5, 73 UART_D_CTS, 74 LCD_1_18bit_G4, 75 UART_D_RX, 76 LCD_1_18bit_B0, 77 UART_E_TX, 78 LCD_1_18bit_B4, 79 SPI_3_MASTER_MOSI, 80 LCD_1_18bit_G0, 81 GPIO_SODIMM_81, 82 LCD_1_18bit_VSYNC, 83 GND, 84 VCC, 85 GPIO_SODIMM_85, 86 SPI_1_MASTER_CS0, 87 nRESET_OUT, 88 SPI_1_MASTER_CLK, 89 GPIO_SODIMM_89, 90 SPI_1_MASTER_MISO, 91, 92 SPI_1_MASTER_MOSI, 93 GPIO_SODIMM_93, 94 GPIO_SODIMM_94, 95 GPIO_SODIMM_95, 96 UART_D_TX, 97 SPI_3_MASTER_MISO, 98 GPIO_SODIMM_98, 99 GPIO_SODIMM_99, 100 can1.TX
part C pins: 101 SPI_3_MASTER_CLK, 102 PWM_E, 103 SPI_3_MASTER_CS0, 104 GPIO_SODIMM_104, 105 GPIO_SODIMM_105, 106 GPIO_SODIMM_106, 107 GPIO_SODIMM_107, 108 VCC, 109 GND, 110, 111, 112, 113, 114, 115, 116, 117, 118, 119, 120, 121, 122, 123, 124, 125, 126, 127 GPIO_SODIMM_127, 128, 129 GPIO_SODIMM_129, 130, 131 GPIO_SODIMM_131, 132, 133 SPI_2_MASTER_MOSI, 134, 135 UART_E_RX, 136, 137 GPIO_SODIMM_137, 138 GPIO_SODIMM_138, 139, 140, 141, 142, 143 USB_C_DP, 144, 145 USB_C_DM, 146, 147 GND, 148 VCC, 149, 150
part D pins: 151, 152, 153, 154, 155, 156, 157, 158, 159, 160, 161, 162, 163, 164, 165, 166, 167, 168, 169, 170, 171, 172, 173, 174, 175, 176, 177, 178 GPIO_SODIMM_178, 179, 180, 181 GND, 182 VCC, 183 ETH_1_LINK_AKT, 184, 185 ETH_1_SPEED100, 186 can1.RX, 187 ETH_1_TXO-, 188 GPIO_SODIMM_188, 189 ETH_1_TXO+, 190 GPIO_SODIMM_190, 191 ETH_GND, 192 GPIO_SODIMM_192, 193 ETH_1_RXI-, 194 I2C_1_SDA, 195 ETH_1_RXI+, 196 I2C_1_SCL, 197 GND, 198 VCC, 199 GND, 200 VCC
part E pins: 201 Clip 1, 202 Clip 2
part A text: [iMX6ULL-FUNKTION]
part E text: CON Mechanic

## CON_1p_3866B.68
designator X?, comment 3866B.68
Flachstecker 3866B.68 / Bürklin 05F270
footprint CON_1p_Flachstecker-6mm (3866B.66)
pins: 1, 2

## CON_1p_61300111121
designator X?, comment 61300111121
CONN HEADER VERT 1POS; Manufacturer: Wurth Electronics; Number of Positions: 1; Gender: Male; Connector Type: Male Pin; Supplier 1: Farnell; Manufacturer Part Number: 61300111121; RoHS: Yes; Category: Connectors; Stock 1: 326; Pricing 1: 100=0,05700, 500=0,05200, 1000=0,05100, 2500=0,04990, 5000=0,04890, 10000=0,04780 (EUR); Mount: Through Hole; Contact Plating: Gold; Contact Material: Copper; Color: Black; Packaging: Bulk; Number of Rows: 1; Termination: Solder; Number of Contacts: 1; Contact Mating Length: 0.236inch; REACH SVHC: Unknown; ComponentLink1URL: http://www.farnell.com/cad/1737268.pdf?src-supplier=Element14; ComponentLink1Description: http://www.farnell.com/cad/1737268.pdf?src-supplier=Element14; ComponentLink2URL: https://katalog.we-online.de/em/datasheet/6130xx11121.pdf?src-supplier=Digi-Key; ComponentLink2Description: https://katalog.we-online.de/em/datasheet/6130xx11121.pdf?src-supplier=Digi-Key; Supplier Part Number 1: 2356152
footprint CON_1p_61300111121 (Pin Header, pitch 2.54 mm, THT, Vertical, single row, 1p)
pins: 1

## CON_2p_B2B-XH-A(LF)(SN)
designator X?, comment B2B-XH-A(LF)(SN)
Conn Shrouded Header (4 Sides) HDR 2 POS 2.5mm Solder ST Thru-Hole Box; Manufacturer: JST; Number of Positions: 2; Connector Type: Male Pin; Current Rating: 3A; Contact Resistance: 20mR; Voltage Rating: 250V; Insulation Resistance: 1GR; Wire/Cable Gauge: 22AWG; Supplier 1: Farnell; Manufacturer Part Number: B2B-XH-A(LF)(SN); RoHS: Yes; Category: FFC / FPC; Stock 1: 138104; Pricing 1: 100=0,06890, 1000=0,06030, 2500=0,05600, 5000=0,05160, 10000=0,05030, 20000=0,04930 (EUR); Mount: Through Hole; Contact Plating: Tin,Copper,Lead; Color: Natural; Contact Material: Brass; Housing Color: White; Housing Material: Polyamide; Min Operating Temperature: -25°C; Max Operating Temperature: 85°C; Number of Rows: 1; Packaging: Bulk; Termination: Solder; Fastening Type: Detent; Max Current Rating: 3A; Voltage Rating (AC): 250V; Max Voltage Rating (AC): 250V; Number of Contacts: 2; Max Voltage Rating (DC): 250V; Orientation: Straight; Length: 7.4mm; Pitch: 2.5mm; Lead Pitch: 2.5mm; Depth: 5.75mm; REACH SVHC: No SVHC; Lead Free: Lead Free; ComponentLink1URL: https://datasheet.ciiva.com/26894/getdatasheetpartid-640357-26894434.pdf?src-supplier=Verical; ComponentLink1Description: https://datasheet.ciiva.com/26894/getdatasheetpartid-640357-26894434.pdf?src-supplier=Verical; ComponentLink2URL: https://datasheet.ciiva.com/11746/0900766b8082653e-11746979.pdf?src-supplier=RSComponents; ComponentLink2Description: https://datasheet.ciiva.com/11746/0900766b8082653e-11746979.pdf?src-supplier=RSComponents; ComponentLink3URL: https://datasheet.ciiva.com/26894/getdatasheetpartid-385291-26894760.pdf?src-supplier=Verical; ComponentLink3Description: https://datasheet.ciiva.com/26894/getdatasheetpartid-385291-26894760.pdf?src-supplier=Verical; ComponentLink4URL: https://datasheet.ciiva.com/8052/5448-8052024.pdf?src-supplier=Element14; ComponentLink4Description: https://datasheet.ciiva.com/8052/5448-8052024.pdf?src-supplier=Element14; ComponentLink5URL: https://datasheet.ciiva.com/20207/523653-20207167.pdf?src-supplier=Rapid+Electronics; ComponentLink5Description: https://datasheet.ciiva.com/20207/523653-20207167.pdf?src-supplier=Rapid+Electronics; Supplier Part Number 1: 1516276
footprint CON_2p_JST-B2B-XH-A_V (Header, 2-Leads, Body 7.4x5.75mm, Pitch 2.5mm)
pins: 1, 2

## CON_2p_B2P-VH-B(LF)(SN)
designator X?, comment B2P-VH-B
CONN HEADER TOP 2POS 3.96MM VH; Manufacturer Part Number: B2P-VH-B(LF)(SN); Manufacturer: JST; Number of Positions: 2; Connector Type: Male Pin; Pitch: 0.156inch; PCBChecked: initials after Checked; Supplier 1: RSComponents; RoHS: Yes; Category: Connectors; Mount: Through Hole; Color: Natural; Contact Plating: Tin; Termination: Solder; Number of Rows: 1; Fastening Type: Friction,Ramp; Packaging: Bulk; Contact Mating Length: 0.303inch; Lead Free: Lead Free; ComponentLink1URL: https://datasheet.ciiva.com/6853/evh-6853485.pdf?src-supplier=Digi-Key; ComponentLink1Description: https://datasheet.ciiva.com/6853/evh-6853485.pdf?src-supplier=Digi-Key; ComponentLink2URL: https://datasheet.ciiva.com/16358/b2p-vh-blfsn-16358717.pdf?src-supplier=Future+Electronics; ComponentLink2Description: https://datasheet.ciiva.com/16358/b2p-vh-blfsn-16358717.pdf?src-supplier=Future+Electronics; Supplier Part Number 1: 7495193; Pricing 1: 50=0,19300, 500=0,16400, 1250=0,15500, 2500=0,14500, 5000=0,13500 (EUR); IPC7352C: initials after Checked; SCHChecked: initials after Checked
footprint CON-B2P-VH-B-3.96MM_nn
pins: 1 GND_IN, 2 PWR_IN

## CON_3p_61300311121
designator J?, comment 61300311121
Board-To-Board Connector, Vertical, Wr-Phd Series, Through Hole, Header, 3, 2.54 Mm; Manufacturer: Wurth Electronics; Number of Positions: 3; Gender: Male; Connector Type: Male Pin; Pitch: 0.1inch; Supplier 1: Farnell; Manufacturer Part Number: 61300311121; RoHS: Yes; Category: Connectors; Stock 1: 29310; Pricing 1: 100=0,05670, 500=0,05520, 1000=0,05370, 2500=0,05260, 5000=0,05160, 10000=0,05050 (EUR); Mount: Through Hole; Contact Plating: Gold; Contact Material: Copper; Color: Black; Number of Rows: 1; Packaging: Bulk; Termination: Solder; Number of Contacts: 3; Contact Mating Length: 0.236inch; REACH SVHC: Unknown; Lead Free: Lead Free; ComponentLink1URL: http://www.farnell.com/cad/1737268.pdf?src-supplier=Element14; ComponentLink1Description: http://www.farnell.com/cad/1737268.pdf?src-supplier=Element14; ComponentLink2URL: https://katalog.we-online.de/em/datasheet/6130xx11121.pdf?src-supplier=Digi-Key; ComponentLink2Description: https://katalog.we-online.de/em/datasheet/6130xx11121.pdf?src-supplier=Digi-Key
footprint CON_3p_61300311121 (Pin Header, pitch 2.54 mm, THT, Vertical, single row, 3p)
pins: 1, 2, 3
text: PIN Header

## CON_3p_B3B-XH-A(LF)(SN)
designator X?, comment B3B-XH-A(LF)(SN)
JST (JAPAN SOLDERLESS TERMINALS) - B3B-XH-A (LF)(SN) - Wire-To-Board Connector, 2.5 mm, 3 Contacts, Header, XH Series, Through Hole, 1 Rows; Current Rating: 3A; Number of Positions: 3; Connector Type: Male Pin; Voltage Rating (AC): 250V; Contact Resistance: 20mR; Insulation Resistance: 1GR; Gender: Male; Pitch: 2.5mm; Wire/Cable Gauge: 22AWG; Supplier 1: Farnell; Manufacturer: JST; Manufacturer Part Number: B3B-XH-A(LF)(SN); RoHS: Yes; Category: Headers and Wire Housings; Stock 1: 97394; Pricing 1: 100=0,10700, 500=0,08840, 1000=0,07740, 2500=0,07190, 5000=0,06640, 10000=0,06450 (EUR); Mount: Through Hole; Contact Plating: Tin,Lead,Copper; Contact Material: Brass; Color: Natural; Housing Color: White; Housing Material: Polyamide; Min Operating Temperature: -25°C; Max Operating Temperature: 85°C; Number of Rows: 1; Packaging: Bulk; Termination: Press-Fit; Max Current Rating: 3A; Voltage Rating: 250V; Fastening Type: Detent; Number of Contacts: 3; Max Voltage Rating (AC): 250V; Max Voltage Rating (DC): 250V; Orientation: Straight; Length: 9.9mm; Lead Pitch: 2.5mm; Depth: 5.75mm; Lead Free: Lead Free; REACH SVHC: No SVHC; ComponentLink1URL: https://datasheet.ciiva.com/26894/getdatasheetpartid-640434-26894454.pdf?src-supplier=Verical; ComponentLink1Description: https://datasheet.ciiva.com/26894/getdatasheetpartid-640434-26894454.pdf?src-supplier=Verical; ComponentLink2URL: https://datasheet.ciiva.com/11746/0900766b8082653f-11746520.pdf?src-supplier=RSComponents; ComponentLink2Description: https://datasheet.ciiva.com/11746/0900766b8082653f-11746520.pdf?src-supplier=RSComponents; ComponentLink3URL: https://datasheet.ciiva.com/26894/getdatasheetpartid-440399-26894778.pdf?src-supplier=Verical; ComponentLink3Description: https://datasheet.ciiva.com/26894/getdatasheetpartid-440399-26894778.pdf?src-supplier=Verical; Supplier Part Number 1: 1516277
footprint CON_FP-B3B-XH-A_LF_SN-MFG
pins: 1, 2, 3

## CON_4p_68610414122
designator X?, comment 68610414122
SMT ZIF Connectors WR-FPC, Horizontal, Top Contact, pitch 1 mm, 4 pins; Manufacturer: Wurth Electronics; Gender: Receptacle; Number of Contacts: 4; Supplier 1: Farnell; Manufacturer Part Number: 68610414122; RoHS: Yes; Category: Connectors; Stock 1: 776; Pricing 1: 1=0,95900, 37=0,87000, 112=0,80000, 300=0,74500, 750=0,71900 (EUR); Contact Plating: Tin; Contact Material: Bronze; Termination: SMD/SMT; Number of Rows: 1; REACH SVHC: Unknown; ComponentLink1URL: http://www.farnell.com/cad/2005728.pdf?src-supplier=Element14; ComponentLink1Description: http://www.farnell.com/cad/2005728.pdf?src-supplier=Element14; Supplier Part Number 1: 2520124
footprint CON_4p_68610414122 (ZIF Connectors, Horizontal, Top Contact, pitch 1mm, 4p)
pins: 1, 2, 3, 4, MP1, MP2
text: Mech-Pad

## CON_4pol_B4B-XH-A(LF)(SN)
designator X?, comment B4B-XH-A(LF)(SN)
JST (JAPAN SOLDERLESS TERMINALS) - B4B-XH-A (LF)(SN) - Wire-To-Board-Steckverbinder, vertikal, 2.5 mm, 4 Kontakt(e), Stiftleiste, Baureihe XH; Connector Type: Male Pin; Number of Positions: 4; Gender: Male; Contact Resistance: 20mR; Current Rating: 3A; Max Voltage Rating (AC): 250V; Insulation Resistance: 1GR; Pitch: 2.5mm; Wire/Cable Gauge: 22AWG; Supplier 1: Newark; Manufacturer: JST; Manufacturer Part Number: B4B-XH-A(LF)(SN); RoHS: Yes; Category: FFC / FPC; Mount: Through Hole; Contact Plating: Tin,Copper,Lead; Contact Material: Brass; Color: Natural; Housing Material: Polyamide; Housing Color: White; Material: Polyamide; Min Operating Temperature: -25°C; Max Operating Temperature: 85°C; Number of Rows: 1; Packaging: Bulk; Termination: Press-Fit; Max Current Rating: 3A; Package Quantity: 500; Orientation: Straight; Voltage Rating (AC): 250V; Voltage Rating: 250V; Max Voltage Rating (DC): 250V; Number of Contacts: 4; Length: 12.4mm; Depth: 5.75mm; Lead Pitch: 2.5mm; Lead Free: Lead Free; REACH SVHC: No SVHC; ComponentLink1URL: https://datasheet.ciiva.com/26894/getdatasheetpartid-455616-26894787.pdf?src-supplier=Verical; ComponentLink1Description: https://datasheet.ciiva.com/26894/getdatasheetpartid-455616-26894787.pdf?src-supplier=Verical; ComponentLink2URL: https://datasheet.ciiva.com/26924/getdatasheetpartid-640571-26924035.pdf?src-supplier=Verical; ComponentLink2Description: https://datasheet.ciiva.com/26924/getdatasheetpartid-640571-26924035.pdf?src-supplier=Verical; ComponentLink3URL: https://datasheet.ciiva.com/16203/b4b-xh-alfsn-16203642.pdf?src-supplier=Future+Electronics; ComponentLink3Description: https://datasheet.ciiva.com/16203/b4b-xh-alfsn-16203642.pdf?src-supplier=Future+Electronics; ComponentLink4URL: https://datasheet.ciiva.com/726/exh-726404.pdf?src-supplier=Digi-Key; ComponentLink4Description: https://datasheet.ciiva.com/726/exh-726404.pdf?src-supplier=Digi-Key; Supplier Part Number 1: 73M9436
footprint CON_B4B-XH-A(LF)(SN) (B4B-XH-A (LF)(SN) -  Stiftleiste, vertikal, Wire-to-Board, 2.5 mm, 1 Reihe(n), 4 Kontakt(e), Durchsteckmontage, gerade)
pins: 1, 2, 3, 4

## CON_5p_61300511121
designator J?, comment 61300511121
WURTH ELEKTRONIK - 61300511121 - Pin Header, Board-to-Board, 2.54 mm, 1 Rows, 5 Contacts, Through Hole, WR-PHD Series; Manufacturer: Wurth Electronics; Number of Positions: 5; Gender: Male; Connector Type: Male Pin; Pitch: 0.1inch; Supplier 1: Farnell; Manufacturer Part Number: 61300511121; RoHS: Yes; Category: Connectors; Stock 1: 2923; Pricing 1: 10=0,12700, 100=0,10500, 500=0,10300, 1000=0,10100, 2500=0,09870, 5000=0,09660 (EUR); Mount: Through Hole; Contact Plating: Gold; Contact Material: Copper; Color: Black; Number of Rows: 1; Packaging: Bulk; Termination: Solder; Number of Contacts: 5; Contact Mating Length: 0.236inch; REACH SVHC: Unknown; Lead Free: Lead Free; ComponentLink1URL: https://katalog.we-online.de/em/datasheet/6130xx11121.pdf?src-supplier=Digi-Key; ComponentLink1Description: https://katalog.we-online.de/em/datasheet/6130xx11121.pdf?src-supplier=Digi-Key; ComponentLink2URL: http://www.farnell.com/cad/1737268.pdf?src-supplier=Element14; ComponentLink2Description: http://www.farnell.com/cad/1737268.pdf?src-supplier=Element14; Supplier Part Number 1: 2356157
footprint CON_5p_61300511121 (Pin Header, pitch 2.54 mm, THT, Vertical, single row, 5p)
pins: 1, 2, 3, 4, 5
text: PIN Header